# Altium integrated library Infineon_Power_Smart_Low-Side_&_High-Side_Switches.IntLib: 238 symbols (part 5 of 14)
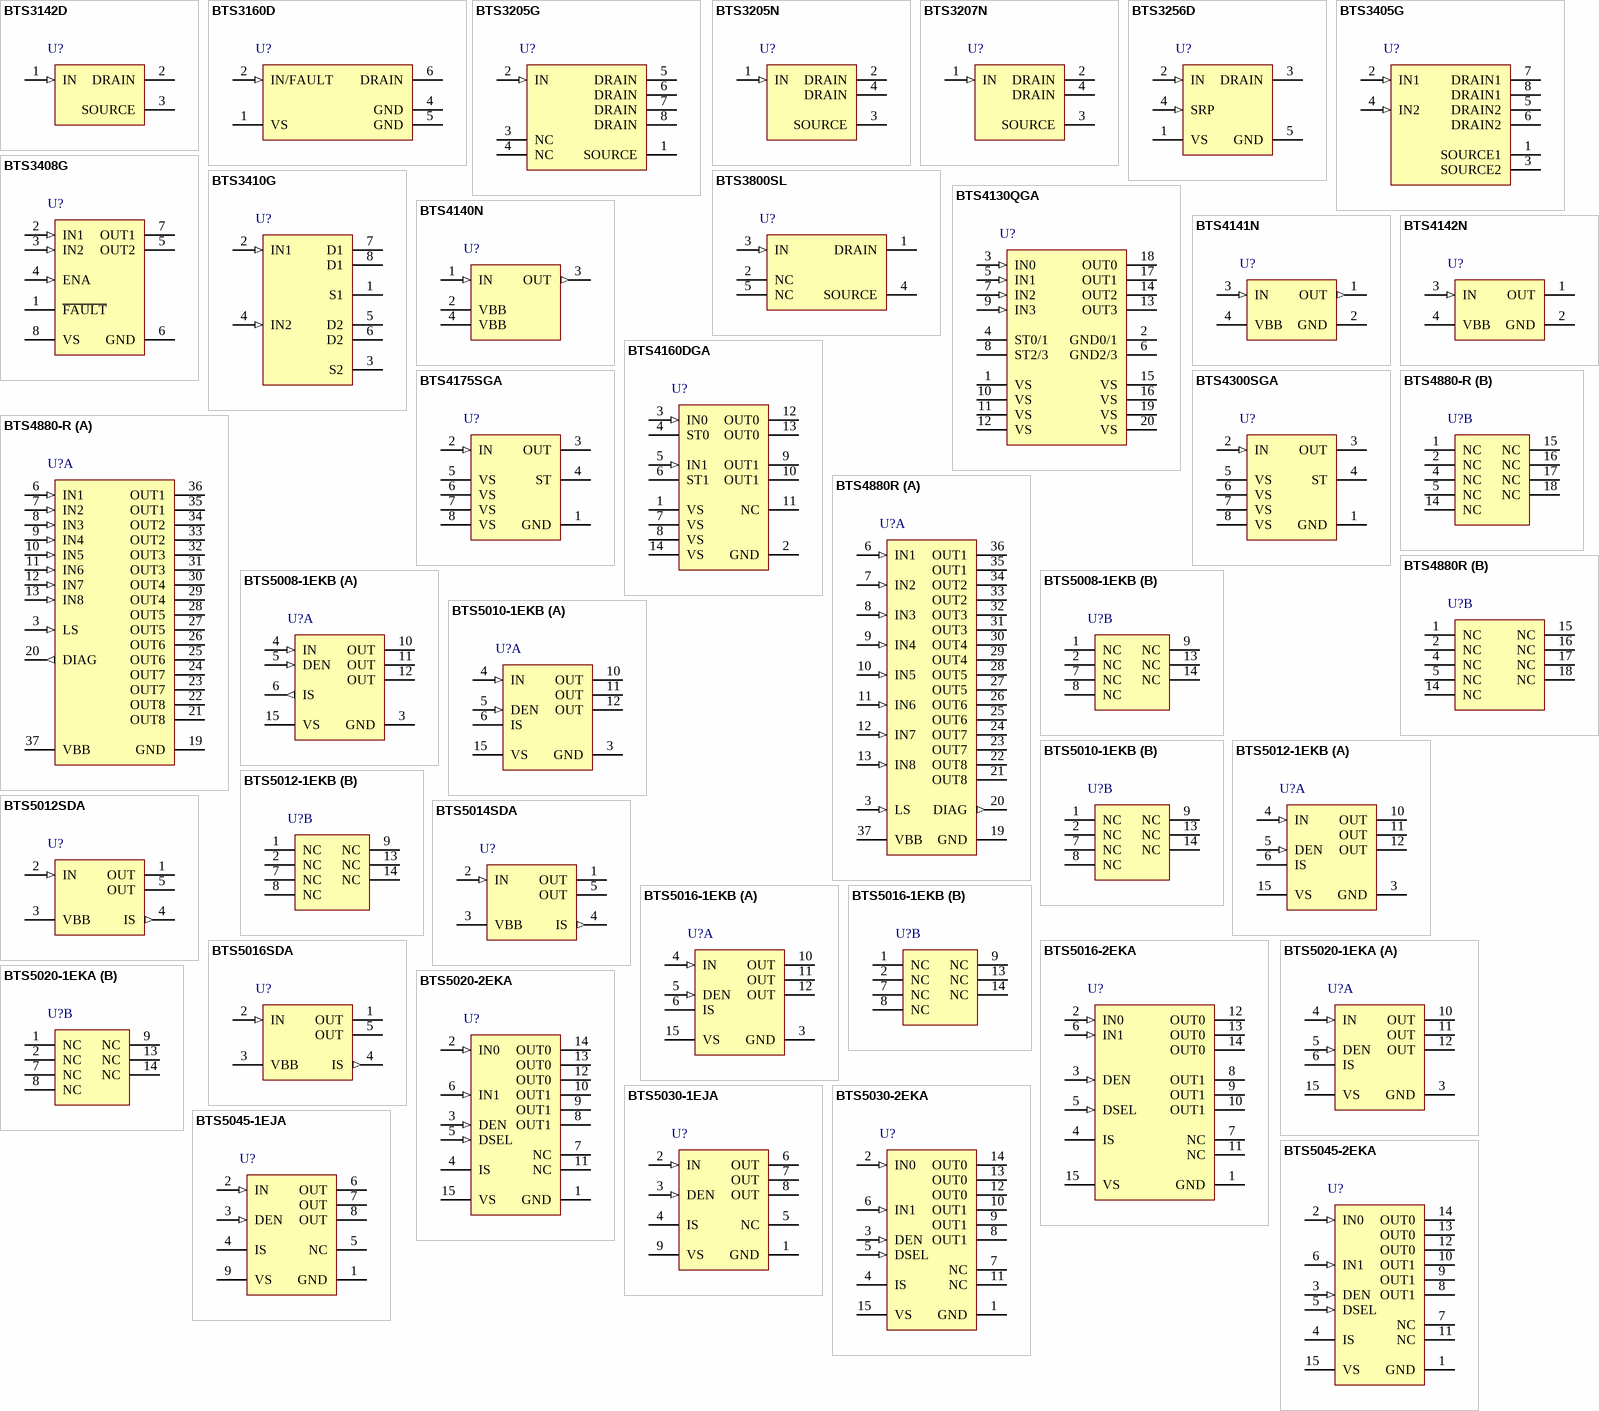
[diagram p11: symbols BTS3142D to BTS5045-2EKA]

## BTS3408G
designator U?
Smart Low-Side Power Switch HITFET, 60 V VDS, 0.55 A ID, -40 to 150 degC, PG-DSO-8-36, Reel, Green; Manufacturer: Infineon; PartNumber: BTS3408G; Channels: 2; Green: TRUE; ID: 0.55 A; ID(lim) (min): 1 A; Ptot (max): 0.88 W; RDS (on)(max): 550 mOhm; ton (max): 8 us; VDS (max): 60 V; DatasheetVersion: Rev. 1.4; PackageVersion: Feb-13; PackageReference: PG-DSO-8-36; PackageDescription: 8-Pin Plastic (Green) Dual Small Outline Package, 4.9 x 3.9 mm Body, 1.27 mm Pitch; Supplier 1: Mouser; Supplier Part Number 1: 726-BTS3408G; Supplier 2: Digi-Key; Supplier Part Number 2: BTS3408GTR-ND; Supplier 3: Digi-Key; Supplier Part Number 3: BTS3408GCT-ND; Supplier 4: Digi-Key; Supplier Part Number 4: BTS3408GDKR-ND; Group: HITFET; Halogen-free: TRUE; ID(nom): 0.55 A; Packing: Reel; toff (max): 8 us; Mounting Technology: Surface Mount; ComponentLink1Description: Manufacturer URL; ComponentLink1URL: http://www.infineon.com/; ComponentLink2Description: Datasheet; ComponentLink2URL: http://www.infineon.com/dgdl/BTS3408G_DS_14.pdf?folderId=db3a3043163797a6011667aa084c0e01&fileId=db3a30433d346a2d013d587dc22c0785&location=en.Products.Automotive_ICs.Smart_High-_and_Low-Side_Switches.HITFET___TEMPFET__-_Smart_Low-Side_Switches.DATASHEET.BTS3408G_DS_14.pdf; ComponentLink3Description: Package Specification; ComponentLink3URL: http://www.infineon.com/dgdl/BTS3408G_DS_14.pdf?folderId=db3a3043163797a6011667aa084c0e01&fileId=db3a30433d346a2d013d587dc22c0785&location=en.Products.Automotive_ICs.Smart_High-_and_Low-Side_Switches.HITFET___TEMPFET__-_Smart_Low-Side_Switches.DATASHEET.BTS3408G_DS_14.pdf
footprint INF-PG-DSO-8-36_N (SOP, 8-Leads, Body 4.9x3.9mm, Pitch 1.27mm, IPC Medium Density)
footprint INF-PG-DSO-8-36_L (SOP, 8-Leads, Body 4.9x3.9mm, Pitch 1.27mm, IPC High Density)
footprint INF-PG-DSO-8-36_M (SOP, 8-Leads, Body 4.9x3.9mm, Pitch 1.27mm, IPC Low Density)
pins: 1 ~{FAULT} (oc) "General Fault Flag; see Table 2 for operation mode.", 2 IN1 (in) "Input 1; input of channel 1; has an internal pull down; TTL/CMOS compatible input.", 3 IN2 (in) "Input 2; input of channel 2; has an internal pull down; TTL/CMOS compatible input.", 4 ENA (in) "Enable/Freeze; has an internal pull down; device is enabled when voltage is higher then 1.2 volts; if the voltage is below 1.7 volts the output is freezed, input signals will be ignored; if the voltage is above 2 volts input (See Datasheet)", 5 OUT2 (power) "Output 2; output of D-MOS stage 2.", 6 GND (power) "Ground.", 7 OUT1 (power) "Output 1; output of D-MOS stage 1.", 8 VS (power) "Power supply."

## BTS3410G
designator U?
Smart Low-Side Power Switch HITFET, 42 V VDS, 1.3 A ID, -40 to 150 degC, PG-DSO-8-25, Reel, Green; Manufacturer: Infineon; PartNumber: BTS3410G; Channels: 2; Green: TRUE; ID: 1 A; ID(nom): 1.3 A; ID(lim) (min): 5 A; Ptot (max): 0.8 W; RDS (on)(max): 200 mOhm; ton (max): 100 us; VDS (max): 42 V; DatasheetVersion: Rev. 1.3; PackageVersion: Nov-07; PackageReference: PG-DSO-8-25; PackageDescription: 8-Pin Plastic (Green) Dual Small Outline Package, 4.9 x 3.9 mm Body, 1.27 mm Pitch; Supplier 1: Mouser; Supplier Part Number 1: 726-BTS3410G; Supplier 2: Newark; Supplier Part Number 2: 78X4827; Supplier 3: Farnell; Supplier Part Number 3: 2432485; Supplier 4: Digi-Key; Supplier Part Number 4: BTS3410GTR-ND; Supplier 5: Digi-Key; Supplier Part Number 5: BTS3410GCT-ND; Supplier 6: Digi-Key; Supplier Part Number 6: BTS3410GDKR-ND; Group: HITFET; Halogen-free: TRUE; Packing: Reel; toff (max): 100 us; Mounting Technology: Surface Mount; ComponentLink1Description: Manufacturer URL; ComponentLink1URL: http://www.infineon.com/; ComponentLink2Description: Datasheet; ComponentLink2URL: http://www.infineon.com/dgdl/BTS3410G_DS_13.pdf?folderId=db3a3043163797a6011667aa084c0e01&fileId=db3a3043271faefd01274d02cd525d4a&location=en.Products.Automotive_ICs.Smart_High-_and_Low-Side_Switches.HITFET___TEMPFET__-_Smart_Low-Side_Switches.DATASHEET.BTS3410G_DS_13.pdf; ComponentLink3Description: Package Specification; ComponentLink3URL: http://www.infineon.com/dgdl/BTS3410G_DS_13.pdf?folderId=db3a3043163797a6011667aa084c0e01&fileId=db3a3043271faefd01274d02cd525d4a&location=en.Products.Automotive_ICs.Smart_High-_and_Low-Side_Switches.HITFET___TEMPFET__-_Smart_Low-Side_Switches.DATASHEET.BTS3410G_DS_13.pdf
footprint INF-PG-DSO-8-25_N (SOP, 8-Leads, Body 4.9x3.9mm, Pitch 1.27mm, IPC Medium Density)
footprint INF-PG-DSO-8-25_L (SOP, 8-Leads, Body 4.9x3.9mm, Pitch 1.27mm, IPC High Density)
footprint INF-PG-DSO-8-25_M (SOP, 8-Leads, Body 4.9x3.9mm, Pitch 1.27mm, IPC Low Density)
pins: 1 S1 (power) "Source Channel 1", 2 IN1 (in) "Input Channel 1", 3 S2 (power) "Source Channel 2", 4 IN2 (in) "Input Channel 2", 5 D2 (power) "Drain Channel 2", 6 D2 (power) "Drain Channel 2", 7 D1 (power) "Drain Channel 1", 8 D1 (power) "Drain Channel 1"

## BTS3800SL
designator U?
HITFET Smart Low Side Power Switch, Small Protected Automotive Relay Driver Single Channel, 800 mOhm, 41 V VDS, 0.52 A ID, -40 to 150 degC, PG-SCT595, Reel, Green; Manufacturer: Infineon; PartNumber: BTS3800SL; Channels: 1; Green: TRUE; ID: 0.52 A; ID(nom): 0.35 A; ID(lim) (min): 0.75 A; ISC (max): 1.5 A; ton (max): 5 us; VDS (max): 41 V; DatasheetVersion: Rev. 1.1; PackageVersion: Apr-08; PackageReference: PG-SCT595; PackageDescription: 5-Pin Semiconductor Transistor Package, 2.9 x 1.6 mm Body, 0.95 mm Pitch; Supplier 1: Mouser; Supplier Part Number 1: 726-BTS3800SL; Supplier 2: Newark; Supplier Part Number 2: 47W3386; Supplier 3: Farnell; Supplier Part Number 3: 2215528; Supplier 4: Digi-Key; Supplier Part Number 4: BTS3800SL-ND; Group: HITFET; Halogen-free: FALSE; Packing: Reel; RDS (on)(max): 800 mOhm; toff (max): 5 us; Mounting Technology: Surface Mount; ComponentLink1Description: Manufacturer URL; ComponentLink1URL: http://www.infineon.com/; ComponentLink2Description: Datasheet; ComponentLink2URL: http://www.infineon.com/dgdl/BTS3800_DS_11.pdf?folderId=db3a30431ddc9372011e26863f92474e&fileId=db3a30432fbc32ee012fc48b8196750a&location=en.Products.Automotive_ICs.Smart_High-_and_Low-Side_Switches.HITFET___TEMPFET__-_Smart_Low-Side_Switches.DATASHEET.BTS3800_DS_11.pdf; ComponentLink3Description: Package Specification; ComponentLink3URL: http://www.infineon.com/dgdl/SCT595-Package_Overview.pdf?folderId=db3a30431936bc4b01195289a4e23b8a&fileId=db3a30431936bc4b0119529a880d3bb2
footprint INF-PG-SCT595_V (SOT23, 5-Leads, Body 2.9x1.6mm, Pitch 0.95mm)
pins: 1 DRAIN (power) "Drain pin; Load connection for power DMOS", 2 NC "Not connected; Should be connected to ground for cooling", 3 IN (in) "Input pin; Digital input", 4 SOURCE (power) "Source pin; Ground, Source of power DMOS", 5 NC "Not connected; Should be connected to ground for cooling"

## BTS4130QGA
designator U?
Smart High-Side Power Switch, 4 Channels, 1.7 A Load Current, -40 to 150 degC, PG-DSO-20-32, Reel, Green; Manufacturer: Infineon; PartNumber: BTS4130QGA; Channels: 4; Green: TRUE; Group: Automotive Qualified; Load Current (typ): 1.7 A; Ptot (max): 1.4 W; Recommended Operating Voltage Max.: 20 V; Recommended Operating Voltage Min.: 5.5 V; RON @ 25degreesC: 130 mOhm; RON(max) @ 150degreesC: 260 mOhm; toff (max): 270 us; ton (max): 250 us; DatasheetVersion: Rev. 1.0; PackageVersion: Mar-08; PackageReference: PG-DSO-20-32; PackageDescription: 20-Pin Plastic (Green) Dual Small Outline Package, 12.7 x 7.5 mm Body, 1.27 mm Pitch; Supplier 1: Mouser; Supplier Part Number 1: 726-BTS4130QGA; Supplier 2: Newark; Supplier Part Number 2: 47W3387; Supplier 3: Farnell; Supplier Part Number 3: 2215517; Supplier 4: Digi-Key; Supplier Part Number 4: BTS4130QGATR-ND; Supplier 5: Digi-Key; Supplier Part Number 5: BTS4130QGACT-ND; Supplier 6: Digi-Key; Supplier Part Number 6: BTS4130QGADKR-ND; Halogen-free: TRUE; Packing: Reel; Mounting Technology: Surface Mount; ComponentLink1Description: Manufacturer URL; ComponentLink1URL: http://www.infineon.com/; ComponentLink2Description: Datasheet; ComponentLink2URL: http://www.infineon.com/dgdl/BTS+4130QGA_DS10+_neu.pdf?folderId=db3a304314dca389011537739e37155f&fileId=db3a30431a5c32f2011a957932285680&sId=db3a30433d68e984013d7f42d6576278; ComponentLink3Description: Package Specification; ComponentLink3URL: http://www.infineon.com/dgdl/BTS+4130QGA_DS10+_neu.pdf?folderId=db3a304314dca389011537739e37155f&fileId=db3a30431a5c32f2011a957932285680&sId=db3a30433d68e984013d7f42d6576278
footprint INF-PG-DSO-20-32_N (SOP, 20-Leads, Body 12.7x7.5mm, Pitch 1.27mm, IPC Medium Density)
footprint INF-PG-DSO-20-32_L (SOP, 20-Leads, Body 12.7x7.5mm, Pitch 1.27mm, IPC High Density)
footprint INF-PG-DSO-20-32_M (SOP, 20-Leads, Body 12.7x7.5mm, Pitch 1.27mm, IPC Low Density)
pins: 1 VS (power) "Battery voltage; Design the wiring for the simultaneous maximum short circuit currents from channel 0 and 1 and also for low thermal resistance", 2 GND0/1 (power) "Ground; Ground connection for channel 0 and 1", 3 IN0 (in) "Input channel 0; Input signal for channel 0. Activate the channel in case of logic high level", 4 ST0/1 (oc) "Diagnostic feedback; of channel 0/1. Open drain.", 5 IN1 (in) "Input channel 1; Input signal for channel 1. Activate the channel in case of logic high level", 6 GND2/3 (power) "Ground; Ground connection for channel 2 and 3", 7 IN2 (in) "Input channel 2; Input signal for channel 2. Activate the channel in case of logic high level", 8 ST2/3 (oc) "Diagnostic feedback; of channel 2/3. Open drain.", 9 IN3 (in) "Input channel 3; Input signal for channel 3. Activate the channel in case of logic high level", 10 VS (power) "Battery voltage; Design the wiring for the simultaneous maximum short circuit currents from channel 0 and 1 and also for low thermal resistance", 11 VS (power) "Battery voltage; Design the wiring for the simultaneous maximum short circuit currents from channel 0 and 1 and also for low thermal resistance", 12 VS (power) "Battery voltage; Design the wiring for the simultaneous maximum short circuit currents from channel 0 and 1 and also for low thermal resistance", 13 OUT3 (power) "Output 3; Protected High side power output channel 3", 14 OUT2 (power) "Output 2; Protected High side power output channel 2", 15 VS (power) "Battery voltage; Design the wiring for the simultaneous maximum short circuit currents from channel 0 and 1 and also for low thermal resistance", 16 VS (power) "Battery voltage; Design the wiring for the simultaneous maximum short circuit currents from channel 0 and 1 and also for low thermal resistance", 17 OUT1 (power) "Output 1; Protected High side power output channel 1", 18 OUT0 (power) "Output 0; Protected High side power output channel 0", 19 VS (power) "Battery voltage; Design the wiring for the simultaneous maximum short circuit currents from channel 0 and 1 and also for low thermal resistance", 20 VS (power) "Battery voltage; Design the wiring for the simultaneous maximum short circuit currents from channel 0 and 1 and also for low thermal resistance"

## BTS4140N
designator U?
Smart High-Side Power Switch, 1 Channel, 0.9 A Load Current, -40 to 150 degC, PG-SOT-223, Tube, Green; Manufacturer: Infineon; PartNumber: BTS4140N; Channels: 1; Green: TRUE; Group: Automotive Qualified; Load Current (typ): 0.9 A; Ptot (max): 1.7 W; Recommended Operating Voltage Max.: 60 V; Recommended Operating Voltage Min.: 4.9 V; RON @ 25degreesC: 1000 mOhm; RON(max) @ 150degreesC: 3000 mOhm; toff (max): 140 us; ton (max): 100 us; DatasheetVersion: Rev. 1.1; PackageVersion: May-07; PackageReference: PG-SOT-223; PackageDescription: 4-Pin Small Outline Transistor Package, 3.5 x 6.5 mm Body, 2.3 mm Pitch; Supplier 1: Mouser; Supplier Part Number 1: 726-BTS4140N; Supplier 2: Newark; Supplier Part Number 2: 47W3388; Supplier 3: Farnell; Supplier Part Number 3: 2215503; Supplier 4: Digi-Key; Supplier Part Number 4: BTS4140NINTR-ND; Supplier 5: Digi-Key; Supplier Part Number 5: BTS4140NINCT-ND; Supplier 6: Digi-Key; Supplier Part Number 6: BTS4140NINDKR-ND; Halogen-free: FALSE; Packing: Tube; Mounting Technology: Surface Mount; ComponentLink1Description: Manufacturer URL; ComponentLink1URL: http://www.infineon.com/; ComponentLink2Description: Datasheet; ComponentLink2URL: http://www.infineon.com/dgdl/BTS4140N.pdf?folderId=db3a304314dca389011537739e37155f&fileId=db3a30431b3e89eb011b7e9d23d91509&location=en.Products.Automotive_ICs.Smart_High-_and_Low-Side_Switches.PROFET__-_Smart_High_Side_Switches.DATASHEET.BTS4140N.pdf; ComponentLink3Description: Package Specification; ComponentLink3URL: http://www.infineon.com/dgdl/BSP452.pdf?folderId=db3a304314dca389011537739e37155f&fileId=db3a30431b3e89eb011b7eac4d321531&sId=db3a30433da6ece5013da707896d001d
footprint INF-PG-SOT-223_N (SOT223, 4-Leads, Body 6.5x3.5mm, Pitch 2.3mm, IPC Medium Density)
footprint INF-PG-SOT-223_L (SOT223, 4-Leads, Body 6.5x3.5mm, Pitch 2.3mm, IPC High Density)
footprint INF-PG-SOT-223_M (SOT223, 4-Leads, Body 6.5x3.5mm, Pitch 2.3mm, IPC Low Density)
pins: 1 IN (in) "Input, activates the power switch in case of connection to GND", 2 VBB (power) "Positive power supply voltage", 3 OUT (out) "Output to the load", 4 VBB (power) "Positive power suppy voltage"

## BTS4141N
designator U?
Smart High-Side Power Switch, 1 Channel, 0.7 A Load Current, -40 to 150 degC, PG-SOT223 (SC-73), Reel, Green; Manufacturer: Infineon; PartNumber: BTS4141N; Channels: 1; Green: TRUE; Group: Automotive Qualified; Load Current (typ): 0.7 A; Ptot (max): 1.4 W; Recommended Operating Voltage Max.: 45 V; Recommended Operating Voltage Min.: 12 V; RON @ 25degreesC: 200 mOhm; RON(max) @ 150degreesC: 320 mOhm; toff (max): 150 us; ton (max): 100 us; DatasheetVersion: Rev. 1.1; PackageVersion: Apr-08; PackageReference: PG-SOT223 (SC-73); PackageDescription: 4-Pin Small Outline Transistor Package, 6.5 x 3.5 mm Body, 2.3 mm Pitch; Supplier 1: Mouser; Supplier Part Number 1: 726-BTS4141N; Supplier 2: Newark; Supplier Part Number 2: 47W3389; Supplier 3: Farnell; Supplier Part Number 3: 2215477; Supplier 4: Digi-Key; Supplier Part Number 4: BTS4141NINTR-ND; Supplier 5: Digi-Key; Supplier Part Number 5: BTS4141NINCT-ND; Supplier 6: Digi-Key; Supplier Part Number 6: BTS4141NINDKR-ND; Halogen-free: FALSE; Packing: Reel; Mounting Technology: Surface Mount; ComponentLink1Description: Manufacturer URL; ComponentLink1URL: http://www.infineon.com/; ComponentLink2Description: Datasheet; ComponentLink2URL: http://www.infineon.com/dgdl/BTS4141N_DS_V11_2009.pdf?folderId=db3a304314dca389011537739e37155f&fileId=db3a30431b3e89eb011b7ea5e0f8151d&location=en.Products.Automotive_ICs.Smart_High-_and_Low-Side_Switches.PROFET__-_Smart_High_Side_Switches.DATASHEET.BTS4141N_DS_V11_2009.pdf; ComponentLink3Description: Package Specification; ComponentLink3URL: http://www.infineon.com/dgdl/SOT223-Package_Overview.pdf?folderId=db3a30431936bc4b0119530470b03c3d&fileId=db3a30431936bc4b0119531d40b93c5c
footprint INF-PG-SOT223_SC-73_N (SOT223, 4-Leads, Body 6.5x3.5mm, Pitch 2.3mm, IPC Medium Density)
footprint INF-PG-SOT223_SC-73_L (SOT223, 4-Leads, Body 6.5x3.5mm, Pitch 2.3mm, IPC High Density)
footprint INF-PG-SOT223_SC-73_M (SOT223, 4-Leads, Body 6.5x3.5mm, Pitch 2.3mm, IPC Low Density)
pins: 1 OUT (out) "Output to the load", 2 GND (power) "Logic ground", 3 IN (in) "Input, activates the power switch in case of logic high signal", 4 VBB (power) "Positive power supply voltage"

## BTS4142N
designator U?
Smart High-Side Power Switch, 1 Channel, 3 A Load Current, -40 to 150 degC, PG-SOT-223, Reel, Green; Manufacturer: Infineon; PartNumber: BTS4142N; Channels: 1; Green: TRUE; Group: Automotive Qualified; Load Current (typ): 1.4 A; Ptot (max): 1.4 W; Recommended Operating Voltage Max.: 45 V; Recommended Operating Voltage Min.: 12 V; RON @ 25degreesC: 200 mOhm; RON(max) @ 150degreesC: 320 mOhm; toff (max): 150 us; ton (max): 100 us; DatasheetVersion: Rev. 1.1; PackageVersion: May-07; PackageReference: PG-SOT-223; PackageDescription: 4-Pin Small Outline Transistor Package, 3.5 x 6.5 mm Body, 2.3 mm Pitch; Supplier 1: Mouser; Supplier Part Number 1: 726-BTS4142N; Supplier 2: Newark; Supplier Part Number 2: 47W3390; Supplier 3: Farnell; Supplier Part Number 3: 2215475; Supplier 4: Digi-Key; Supplier Part Number 4: BTS4142NTR-ND; Supplier 5: Digi-Key; Supplier Part Number 5: BTS4142NCT-ND; Supplier 6: Digi-Key; Supplier Part Number 6: BTS4142NDKR-ND; Halogen-free: FALSE; Packing: Reel; Mounting Technology: Surface Mount; ComponentLink1Description: Manufacturer URL; ComponentLink1URL: http://www.infineon.com/; ComponentLink2Description: Datasheet; ComponentLink2URL: http://www.infineon.com/dgdl/BTS4142N.pdf?folderId=db3a304314dca389011537739e37155f&fileId=db3a30431b3e89eb011b7e8683d314e0&location=en.Products.Automotive_ICs.Smart_High-_and_Low-Side_Switches.PROFET__-_Smart_High_Side_Switches.DATASHEET.BTS4142N.pdf; ComponentLink3Description: Package Specification; ComponentLink3URL: http://www.infineon.com/dgdl/BSP452.pdf?folderId=db3a304314dca389011537739e37155f&fileId=db3a30431b3e89eb011b7eac4d321531&sId=db3a30433da6ece5013da707896d001d
footprint INF-PG-SOT-223_N (SOT223, 4-Leads, Body 6.5x3.5mm, Pitch 2.3mm, IPC Medium Density)
footprint INF-PG-SOT-223_L (SOT223, 4-Leads, Body 6.5x3.5mm, Pitch 2.3mm, IPC High Density)
footprint INF-PG-SOT-223_M (SOT223, 4-Leads, Body 6.5x3.5mm, Pitch 2.3mm, IPC Low Density)
pins: 1 OUT (power) "Output to the load", 2 GND (power) "Logic ground", 3 IN (in) "Input, activates the power switch in case of logical high signal", 4 VBB (power) "Positive power supply voltage"

## BTS4160DGA
designator U?
Smart High-Side Power Switch, 2 Channels, 1.7 A Load Current, -40 to 150 degC, PG-DSO-14-37, Reel, Green; Manufacturer: Infineon; PartNumber: BTS4160DGA; Channels: 2; Green: TRUE; Group: Automotive Qualified; Load Current (typ): 1.7 A; Ptot (max): 1.4 W; Recommended Operating Voltage Max.: 20 V; Recommended Operating Voltage Min.: 5.5 V; RON @ 25degreesC: 160 mOhm; RON(max) @ 150degreesC: 320 mOhm; toff (max): 270 us; ton (max): 250 us; DatasheetVersion: Rev. 1.0; PackageVersion: Sep-07; PackageReference: PG-DSO-14-37; PackageDescription: 14-Pin Plastic (Green) Dual Small Outline Package, 8.65 x 3.9 mm Body, 1.27 mm Pitch; Supplier 1: Mouser; Supplier Part Number 1: 726-BTS4160DGA; Supplier 2: Farnell; Supplier Part Number 2: 2215509; Supplier 3: Digi-Key; Supplier Part Number 3: BTS4160DGATR-ND; Supplier 4: Digi-Key; Supplier Part Number 4: BTS4160DGACT-ND; Supplier 5: Digi-Key; Supplier Part Number 5: BTS4160DGADKR-ND; Halogen-free: TRUE; Packing: Reel; Mounting Technology: Surface Mount; ComponentLink1Description: Manufacturer URL; ComponentLink1URL: http://www.infineon.com/; ComponentLink2Description: Datasheet; ComponentLink2URL: http://www.infineon.com/dgdl/BTS+4160DGA_DS2008_03_18_neu.pdf?folderId=db3a304314dca389011537739e37155f&fileId=db3a30431a5c32f2011a957ab5875685&sId=db3a30433d68e984013d7cba76cc57cb; ComponentLink3Description: Package Specification; ComponentLink3URL: http://www.infineon.com/dgdl/BTS723GWDS11_2007_09_25.pdf?folderId=db3a304314dca389011537739e37155f&fileId=db3a304331c8f8560131dbfec21b0da9&sId=db3a30443d67b5ca013d854df2f133e5
footprint INF-PG-DSO-14-37_N (SOP, 14-Leads, Body 8.65x3.9mm, Pitch 1.27mm, IPC Medium Density)
footprint INF-PG-DSO-14-37_L (SOP, 14-Leads, Body 8.65x3.9mm, Pitch 1.27mm, IPC High Density)
footprint INF-PG-DSO-14-37_M (SOP, 14-Leads, Body 8.65x3.9mm, Pitch 1.27mm, IPC Low Density)
pins: 1 VS (power) "Battery voltage Design the wiring for the simultaneous max. short circuit currents from channel 0 and 1 and also for low thermal resistance", 2 GND (power) "Ground; Ground connection", 3 IN0 (in) "Input channel 0; Input signal for channel 0. Activate the channel in case of logic high level", 4 ST0 (oc) "Diagnostic feedback; Channel 0. Open drain", 5 IN1 (in) "Input channel 1; Input signal for channel 1. Activate the channel in case of logic high level", 6 ST1 (oc) "Diagnostic feedback; Channel 1. Open drain", 7 VS (power) "Battery voltage Design the wiring for the simultaneous max. short circuit currents from channel 0 and 1 and also for low thermal resistance", 8 VS (power) "Battery voltage Design the wiring for the simultaneous max. short circuit currents from channel 0 and 1 and also for low thermal resistance", 9 OUT1 (power) "Output 1; Protected High side power output channel 1", 10 OUT1 (power) "Output 1; Protected High side power output channel 1", 11 NC "Not Connected", 12 OUT0 (power) "Output 0; Protected High side power output channel 0", 13 OUT0 (power) "Output 0; Protected High side power output channel 0", 14 VS (power) "Battery voltage Design the wiring for the simultaneous max. short circuit currents from channel 0 and 1 and also for low thermal resistance"

## BTS4175SGA
designator U?
Smart High-Side Power Switch, 1 Channel, 1.3 A Load Current, -40 to 150 degC, PG-DSO-8-24, Reel, Green; Manufacturer: Infineon; PartNumber: BTS4175SGA; Channels: 1; Green: TRUE; Group: Automotive Qualified; Load Current (typ): 1.3 A; Ptot (max): 1.5 W; Recommended Operating Voltage Max.: 52 V; Recommended Operating Voltage Min.: 6 V; RON @ 25degreesC: 175 mOhm; RON(max) @ 150degreesC: 350 mOhm; toff (max): 200 us; ton (max): 180 us; DatasheetVersion: Rev.1.0; PackageVersion: May-07; PackageReference: PG-DSO-8-24; PackageDescription: 8-Pin Plastic (Green) Dual Small Outline Package, 4.9 x 3.9 mm Body, 1.27 mm Pitch; Supplier 1: Mouser; Supplier Part Number 1: 726-BTS4175SGA; Supplier 2: Newark; Supplier Part Number 2: 47W3392; Supplier 3: Farnell; Supplier Part Number 3: 2215521; Supplier 4: Digi-Key; Supplier Part Number 4: BTS4175SGATR-ND; Supplier 5: Digi-Key; Supplier Part Number 5: BTS4175SGACT-ND; Supplier 6: Digi-Key; Supplier Part Number 6: BTS4175SGADKR-ND; Halogen-free: TRUE; Packing: Reel; Mounting Technology: Surface Mount; ComponentLink1Description: Manufacturer URL; ComponentLink1URL: http://www.infineon.com/; ComponentLink2Description: Datasheet; ComponentLink2URL: http://www.infineon.com/dgdl/BTS4175SGA_final_DS_17-04-29.pdf?folderId=db3a304314dca389011537739e37155f&fileId=db3a30431a5c32f2011a6d4a1040744e&location=en.Products.Automotive_ICs.Smart_High-_and_Low-Side_Switches.PROFET__-_Smart_High_Side_Switches.DATASHEET.BTS4175SGA_final_DS_17-04-29.pdf; ComponentLink3Description: Package Specification; ComponentLink3URL: http://www.infineon.com/dgdl/BSP742RI.pdf?folderId=db3a304314dca389011537739e37155f&fileId=db3a304316f112290116f22466b271a6&sId=db3a30433d68e984013d83055b4a7981
footprint INF-PG-DSO-8-24_N (SOP, 8-Leads, Body 4.9x3.9mm, Pitch 1.27mm, IPC Medium Density)
footprint INF-PG-DSO-8-24_L (SOP, 8-Leads, Body 4.9x3.9mm, Pitch 1.27mm, IPC High Density)
footprint INF-PG-DSO-8-24_M (SOP, 8-Leads, Body 4.9x3.9mm, Pitch 1.27mm, IPC Low Density)
pins: 1 GND (power) "Ground; Ground connection", 2 IN (in) "Input channel; Input signal. Activate the channel in case of logic high level", 3 OUT (power) "Output; Protected High side power output channel", 4 ST (oc) "Diagnostic feedback; of channel. Open drain.", 5 VS (power) "Battery voltage; Design the wiring for the simultaneous max. short circuit current and also for low thermal resistance", 6 VS (power) "Battery voltage; Design the wiring for the simultaneous max. short circuit current and also for low thermal resistance", 7 VS (power) "Battery voltage; Design the wiring for the simultaneous max. short circuit current and also for low thermal resistance", 8 VS (power) "Battery voltage; Design the wiring for the simultaneous max. short circuit current and also for low thermal resistance"

## BTS4300SGA
designator U?
Smart Power High-Side-Switch, 1 Channel, 1.1 A Load Current, -40 to 150 degC, PG-DSO-8-24, Reel, Green; Manufacturer: Infineon; PartNumber: BTS4300SGA; Channels: 1; Green: TRUE; Group: Automotive Qualified; Load Current (typ): 1.1 A; Packing: Tube; Ptot (max): 1.5 W; Recommended Operating Voltage Max.: 34 V; Recommended Operating Voltage Min.: 5 V; RON @ 25degreesC: 300 mOhm; RON(max) @ 150degreesC: 600 mOhm; toff (max): 170 us; ton (max): 140 us; DatasheetVersion: Rev. 1.0; PackageVersion: May-07; PackageReference: PG-DSO-8-24; PackageDescription: 8-Pin Plastic (Green) Dual Small Outline Package, 4.9 x 3.9 mm Body, 1.27 mm Pitch; Supplier 1: Mouser; Supplier Part Number 1: 726-BTS4300SGA; Supplier 2: Newark; Supplier Part Number 2: 47W3393; Supplier 3: Farnell; Supplier Part Number 3: 2215523; Supplier 4: Digi-Key; Supplier Part Number 4: BTS4300SGAINTR-ND; Supplier 5: Digi-Key; Supplier Part Number 5: BTS4300SGAINCT-ND; Supplier 6: Digi-Key; Supplier Part Number 6: BTS4300SGAINDKR-ND; Halogen-free: TRUE; Mounting Technology: Surface Mount; ComponentLink1Description: Manufacturer URL; ComponentLink1URL: http://www.infineon.com/; ComponentLink2Description: Datasheet; ComponentLink2URL: http://www.infineon.com/dgdl/BTS4300SGA_final_DS_17-04-08.pdf?folderId=db3a304314dca389011537739e37155f&fileId=db3a30431a5c32f2011a6d4dcbb1745d&location=en.Products.Automotive_ICs.Smart_High-_and_Low-Side_Switches.PROFET__-_Smart_High_Side_Switches.DATASHEET.BTS4300SGA_final_DS_17-04-08.pdf; ComponentLink3Description: Package Specification; ComponentLink3URL: http://www.infineon.com/dgdl/BSP742RI.pdf?folderId=db3a304314dca389011537739e37155f&fileId=db3a304316f112290116f22466b271a6&sId=db3a30433d68e984013d83055b4a7981
footprint INF-PG-DSO-8-24_N (SOP, 8-Leads, Body 4.9x3.9mm, Pitch 1.27mm, IPC Medium Density)
footprint INF-PG-DSO-8-24_L (SOP, 8-Leads, Body 4.9x3.9mm, Pitch 1.27mm, IPC High Density)
footprint INF-PG-DSO-8-24_M (SOP, 8-Leads, Body 4.9x3.9mm, Pitch 1.27mm, IPC Low Density)
pins: 1 GND (power) "Ground; Ground connection", 2 IN (in) "Input channel; Input signal. Activate the channel in case of logic high level", 3 OUT (power) "Output; Protected High side power output channel", 4 ST (oc) "Diagnostic feedback; of channel. Open drain.", 5 VS (power) "Battery voltage; Design the wiring for the simultaneous max. short circuit current and also for low thermal resistance", 6 VS (power) "Battery voltage; Design the wiring for the simultaneous max. short circuit current and also for low thermal resistance", 7 VS (power) "Battery voltage; Design the wiring for the simultaneous max. short circuit current and also for low thermal resistance", 8 VS (power) "Battery voltage; Design the wiring for the simultaneous max. short circuit current and also for low thermal resistance"

## BTS4880-R
designator U?
Smart Power High-Side-Switch, 8 Channels: 8 x 200 mOhm, -40 to 150 degC, PG-DSO-36-26, Reel, Green; Manufacturer: Infineon; PartNumber: BTS4880-R; Channels: 8; Green: TRUE; Group: Automotive Qualified; Ptot (max): 3.3 W; Recommended Operating Voltage Max.: 45 V; Recommended Operating Voltage Min.: 11 V; RON(max) @ 150degreesC: 320 mOhm; toff (max): 150 us; ton (max): 100 us; DatasheetVersion: Rev. 1.1; PackageVersion: Aug-09; PackageReference: PG-DSO-36-26; PackageDescription: 36-Pin Plastic (Green) Dual Small Outline Package, 15.9 x 11 mm Body, 0.65 mm Pitch; Halogen-free: TRUE; Packing: Reel; RON @ 25degreesC: 200 mOhm; Mounting Technology: Surface Mount; ComponentLink1Description: Manufacturer URL; ComponentLink1URL: http://www.infineon.com/; ComponentLink2Description: Datasheet; ComponentLink2URL: http://www.infineon.com/dgdl/BTS4880R_Green_DS_11.pdf?folderId=db3a304314dca389011537739e37155f&fileId=db3a30431b3e89eb011b7e3a9ad714ce&location=en.Products.Automotive_ICs.Smart_High-_and_Low-Side_Switches.PROFET__-_Smart_High_Side_Switches.DATASHEET.BTS4880R_Green_DS_11.pdf; ComponentLink3Description: Package Specification; ComponentLink3URL: http://www.infineon.com/dgdl/ITS4880R_DS_11.pdf?folderId=db3a304412b407950112b408e8c90004&fileId=db3a304412b407950112b4295fb340cf&sId=db3a30433db6f09f013dc85930135028
footprint INF-PG-DSO-36-26_N (SOP, 36-Leads, Body 15.9x11mm, Pitch 0.65mm, Thermal Pad 16x6mm, IPC Medium Density)
footprint INF-PG-DSO-36-26_L (SOP, 36-Leads, Body 15.9x11mm, Pitch 0.65mm, Thermal Pad 16x6mm, IPC High Density)
footprint INF-PG-DSO-36-26_M (SOP, 36-Leads, Body 15.9x11mm, Pitch 0.65mm, Thermal Pad 16x6mm, IPC Low Density)
part A pins: 3 LS (in) "Enable pin for switching the input-levels to Vbb/2", 6 IN1 (in) "Input, activeates channel 1 in case of logic high signal", 7 IN2 (in) "Input, activeates channel 2 in case of logic high signal", 8 IN3 (in) "Input, activeates channel 3 in case of logic high signal", 9 IN4 (in) "Input, activeates channel 4 in case of logic high signal", 10 IN5 (in) "Input, activeates channel 5 in case of logic high signal", 11 IN6 (in) "Input, activeates channel 6 in case of logic high signal", 12 IN7 (in) "Input, activeates channel 7 in case of logic high signal", 13 IN8 (in) "Input, activeates channel 8 in case of logic high signal", 19 GND (power) "Logic ground", 20 DIAG (out) "Common diagnostic output for overtemperature", 21 OUT8 (power) "High-side output of channel 8", 22 OUT8 (power) "High-side output of channel 8", 23 OUT7 (power) "High-side output of channel 7", 24 OUT7 (power) "High-side output of channel 7", 25 OUT6 (power) "High-side output of channel 6", 26 OUT6 (power) "High-side output of channel 6", 27 OUT5 (power) "High-side output of channel 5", 28 OUT5 (power) "High-side output of channel 5", 29 OUT4 (power) "High-side output of channel 4", 30 OUT4 (power) "High-side output of channel 4", 31 OUT3 (power) "High-side output of channel 3", 32 OUT3 (power) "High-side output of channel 3", 33 OUT2 (power) "High-side output of channel 2", 34 OUT2 (power) "High-side output of channel 2", 35 OUT1 (power) "High-side output of channel 1", 36 OUT1 (power) "High-side output of channel 1", 37 VBB (power) "Positive power supply voltage"
part B pins: 1 NC "not connected", 2 NC "not connected", 4 NC "not connected", 5 NC "not connected", 14 NC "not connected", 15 NC "not connected", 16 NC "not connected", 17 NC "not connected", 18 NC "not connected"

## BTS4880R
designator U?
Smart Power High-Side-Switch, Eight Channels: 8 x 200 mOhm, 11 to 45 V, PG-DSO-36, Reel, Green; Manufacturer: Infineon; PartNumber: BTS4880R; Channels: 8; Diagnostic: Digital; Green: TRUE; IL (SCp): 1.4 A; Ptot (max): 3.3 W; Recommended Operating Voltage Max.: 45 V; Recommended Operating Voltage Min.: 11 V; RON @ Tj: 25degreesC=200 mOhm; toff (max): 150 us; ton (max): 100 us; DatasheetVersion: Rev. 1.1; PackageVersion: Rev. 01; PackageReference: PG-DSO-36-12; PackageDescription: 36-Pin Plastic (Green) Dual Small Outline Package, 15.9 x 11 mm Body, 0.65 mm Pitch; Supplier 1: Digi-Key; Supplier Part Number 1: BTS4880RTR-ND; Supplier 2: Digi-Key; Supplier Part Number 2: BTS4880RCT-ND; Supplier 3: Digi-Key; Supplier Part Number 3: BTS4880RDKR-ND; Supplier 4: Farnell; Supplier Part Number 4: 2432492; Supplier 5: Newark; Supplier Part Number 5: 78X4834; Supplier 6: Mouser; Supplier Part Number 6: 726-BTS4880R; Halogen-free: TRUE; Mounting: SMT; Packing: Reel; Mounting Technology: Surface Mount; ComponentLink1Description: Manufacturer URL; ComponentLink1URL: http://www.infineon.com/; ComponentLink2Description: Datasheet; ComponentLink2URL: http://www.infineon.com/dgdl/BTS4880R_Green_DS_11.pdf?folderId=db3a304314dca389011537739e37155f&fileId=db3a30431b3e89eb011b7e3a9ad714ce; ComponentLink3Description: Package Specification; ComponentLink3URL: http://www.infineon.com/cms/packages/SMD_-_Surface_Mounted_Devices/P-PG-DSO/P-PG-DSO-36-10x_-12x_-15x_-16x_-21x_-23x_-26x_-27.html?__locale=en
footprint INF-PG-DSO-36-12_V (SOP, 36-Leads, Body 15.9x11mm, Pitch 0.65mm, Thermal Pad 15.74x5.9mm)
part A pins: 3 LS (in) "Enable pin for switching the input-levels to Vbb/2", 6 IN1 (in) "Input,activates channel 1 in case of logic high signal", 7 IN2 (in) "Input,activates channel 2 in case of logic high signal", 8 IN3 (in) "Input,activates channel 3 in case of logic high signal", 9 IN4 (in) "Input,activates channel 4 in case of logic high signal", 10 IN5 (in) "Input,activates channel 5 in case of logic high signal", 11 IN6 (in) "Input,activates channel 6 in case of logic high signal", 12 IN7 (in) "Input,activates channel 7 in case of logic high signal", 13 IN8 (in) "Input,activates channel 8 in case of logic high signal", 19 GND (power) "Logic ground", 20 DIAG (out) "Common diagnostic output for overtemperature", 21 OUT8 (power) "High-side output of channel 8", 22 OUT8 (power) "High-side output of channel 8", 23 OUT7 (power) "High-side output of channel 7", 24 OUT7 (power) "High-side output of channel 7", 25 OUT6 (power) "High-side output of channel 6", 26 OUT6 (power) "High-side output of channel 6", 27 OUT5 (power) "High-side output of channel 5", 28 OUT5 (power) "High-side output of channel 5", 29 OUT4 (power) "High-side output of channel 4", 30 OUT4 (power) "High-side output of channel 4", 31 OUT3 (power) "High-side output of channel 3", 32 OUT3 (power) "High-side output of channel 3", 33 OUT2 (power) "High-side output of channel 2", 34 OUT2 (power) "High-side output of channel 2", 35 OUT1 (power) "High-side output of channel 1", 36 OUT1 (power) "High-side output of channel 1", 37 VBB (power) "Voltage Supply; Battery voltage"
part B pins: 1 NC "Not connected", 2 NC "Not connected", 4 NC "Not connected", 5 NC "Not connected", 14 NC "Not connected", 15 NC "Not connected", 16 NC "Not connected", 17 NC "Not connected", 18 NC "Not connected"

## BTS5008-1EKB
designator U?
Smart Highside Power Switch Single Channnel, 8 mOhm, -40 to 150 degC, PG-DSO-14-47, Reel, Green; Manufacturer: Infineon; PartNumber: BTS5008-1EKB; Green: TRUE; DatasheetVersion: Rev. 2.0; PackageVersion: Apr-12; PackageReference: PG-DSO-14-47 EP; PackageDescription: 14-Pin Plastic (Green) Dual Small Outline Package, 8.65 x 3.9 mm Body, 1.27 mm Pitch; Supplier 1: Mouser; Supplier Part Number 1: N/A; Halogen-free: TRUE; Packing: Reel; Mounting Technology: Surface Mount; Code_JEDEC: MS-012; ComponentLink1Description: Manufacturer URL; ComponentLink1URL: http://www.infineon.com/; ComponentLink2Description: Datasheet; ComponentLink2URL: http://www.infineon.com/dgdl/BTS5008-1EKB-Data-Sheet-20-Infineon.pdf?folderId=db3a304314dca3890114df197b25000f&fileId=db3a30433daca496013db00d97ac1594; ComponentLink3Description: Package Specification; ComponentLink3URL: http://www.infineon.com/dgdl/BTS5008-1EKB-Data-Sheet-20-Infineon.pdf?folderId=db3a304314dca3890114df197b25000f&fileId=db3a30433daca496013db00d97ac1594&sId=db3a30433f2e70c5013f420039644e8f
footprint INF-PG-DSO-14-47 EP_N (SOP, 14-Leads, Body 8.65x3.9mm, Pitch 1.27mm, Thermal Pad 6.5x2.75mm, IPC Medium Density)
footprint INF-PG-DSO-14-47 EP_L (SOP, 14-Leads, Body 8.65x3.9mm, Pitch 1.27mm, Thermal Pad 6.5x2.75mm, IPC High Density)
footprint INF-PG-DSO-14-47 EP_M (SOP, 14-Leads, Body 8.65x3.9mm, Pitch 1.27mm, Thermal Pad 6.5x2.75mm, IPC Low Density)
part A pins: 3 GND (power) "GrouND; Ground connection", 4 IN (in) "INput channel; Input signal for channel activation", 5 DEN (in) "Diagnostic ENable; Digital signal to enable/disable the diagnosis of the device", 6 IS (out) "Sense; Sense current of the selected channel", 10 OUT (power) "OUTput; Protected high side power output channel", 11 OUT (power) "OUTput; Protected high side power output channel", 12 OUT (power) "OUTput; Protected high side power output channel", 15 VS (power) "Voltage Supply; Battery voltage"
part B pins: 1 NC "Not Connected; No internal connection to the chip", 2 NC "Not Connected; No internal connection to the chip", 7 NC "Not Connected; No internal connection to the chip", 8 NC "Not Connected; No internal connection to the chip", 9 NC "Not Connected; No internal connection to the chip", 13 NC "Not Connected; No internal connection to the chip", 14 NC "Not Connected; No internal connection to the chip"

## BTS5010-1EKB
designator U?
PROFET+ 12 V Smart High-Side Power Switch, 1 Channel, 10 mohm, 10 A Load Current, -40 to 150 degC, PG-DSO-14-47, Reel, Green; Manufacturer: Infineon; PartNumber: BTS5010-1EKB; Channels: 1; Green: TRUE; Group: Automotive Qualified; Load Current (typ): 10 A; Ptot (max): 2 mW; Recommended Operating Voltage Max.: 28 V; Recommended Operating Voltage Min.: 5 V; RON @ 25degreesC: 10 mOhm; RON(max) @ 150degreesC: 20 mOhm; toff (max): 250 us; DatasheetVersion: Rev. 2.0; PackageVersion: Apr-12; PackageReference: PG-DSO-14-47; PackageDescription: 14-Pin Plastic (Green) Dual Small Outline Package, 8.65 x 3.9 mm Body, 1.27 mm Pitch; Halogen-free: TRUE; Packing: Reel; ton (max): 250 us; Mounting Technology: Surface Mount; Code_JEDEC: MS-012; ComponentLink1Description: Manufacturer URL; ComponentLink1URL: http://www.infineon.com/; ComponentLink2Description: Datasheet; ComponentLink2URL: http://www.infineon.com/dgdl/BTS5010-1EKB-Data-Sheet-20-Infineon.pdf?folderId=db3a304317a748360117eee5521349bb&fileId=db3a304336ca04c90136ee624c8e7f90&location=en.Products.Automotive_ICs.Smart_High-_and_Low-Side_Switches.PROFET__-_Smart_High_Side_Switches.DATASHEET.BTS5010-1EKB-Data-Sheet-20-Infineon.pdf; ComponentLink3Description: Package Specification; ComponentLink3URL: http://www.infineon.com/dgdl/BTS5016-1EKB-Datasheet-20-Infineon.pdf?folderId=db3a304317a748360117eee5521349bb&fileId=db3a3043372d5cc8013735a2497012f0&sId=db3a30433d68e984013d8558efbc0db3
footprint INF-PG-DSO-14-47_N (SOP, 14-Leads, Body 8.65x3.9mm, Pitch 1.27mm, Thermal Pad 6500x2750mm, IPC Medium Density)
footprint INF-PG-DSO-14-47_L (SOP, 14-Leads, Body 8.65x3.9mm, Pitch 1.27mm, Thermal Pad 6500x2750mm, IPC High Density)
footprint INF-PG-DSO-14-47_M (SOP, 14-Leads, Body 8.65x3.9mm, Pitch 1.27mm, Thermal Pad 6500x2750mm, IPC Low Density)
part A pins: 3 GND (power) "GrouND; Ground connection", 4 IN (in) "INput channel; Input signal for channel activation", 5 DEN (in) "Diagnostic ENable; Digital signal to enable/disable the diagnosis of the device", 6 IS (hiz) "Sense; Sense current of the selected channel", 10 OUT (power) "OUTput; Protected high side power output channel", 11 OUT (power) "OUTput; Protected high side power output channel", 12 OUT (power) "OUTput; Protected high side power output channel", 15 VS (power) "Voltage Supply; Battery voltage"
part B pins: 1 NC "Not Connected; No internal connection to the chip", 2 NC "Not Connected; No internal connection to the chip", 7 NC "Not Connected; No internal connection to the chip", 8 NC "Not Connected; No internal connection to the chip", 9 NC "Not Connected; No internal connection to the chip", 13 NC "Not Connected; No internal connection to the chip", 14 NC "Not Connected; No internal connection to the chip"

## BTS5012-1EKB
designator U?
PROFET+ 12 V Smart High-Side Power Switch, 1 Channel, 12 mohm, 10 A Load Current, -40 to 150 degC, PG-DSO-14-47, Reel, Green; Manufacturer: Infineon; PartNumber: BTS5012-1EKB; Channels: 1; Green: TRUE; Group: Automotive Qualified; Load Current (typ): 10 A; Ptot (max): 2 mW; Recommended Operating Voltage Max.: 28 V; Recommended Operating Voltage Min.: 5 V; RON @ 25degreesC: 12 mOhm; RON(max) @ 150degreesC: 24 mOhm; toff (max): 250 us; DatasheetVersion: Rev. 2.0; PackageVersion: Apr-12; PackageReference: PG-DSO-14-47; PackageDescription: 14-Pin Plastic (Green) Dual Small Outline Package, 8.65 x 3.9 mm Body, 1.27 mm Pitch; Halogen-free: TRUE; Packing: Reel; ton (max): 250 us; Mounting Technology: Surface Mount; Code_JEDEC: MS-012; ComponentLink1Description: Manufacturer URL; ComponentLink1URL: http://www.infineon.com/; ComponentLink2Description: Datasheet; ComponentLink2URL: http://www.infineon.com/dgdl/BTS5012-1EKB-Data-Sheet-20-Infineon.pdf?folderId=db3a304317a748360117eee5521349bb&fileId=db3a304336ca04c90136eeed674a7fc0&location=en.Products.Automotive_ICs.Smart_High-_and_Low-Side_Switches.PROFET__-_Smart_High_Side_Switches.DATASHEET.BTS5012-1EKB-Data-Sheet-20-Infineon.pdf; ComponentLink3Description: Package Specification; ComponentLink3URL: http://www.infineon.com/dgdl/BTS5016-1EKB-Datasheet-20-Infineon.pdf?folderId=db3a304317a748360117eee5521349bb&fileId=db3a3043372d5cc8013735a2497012f0&sId=db3a30433d68e984013d8558efbc0db3
footprint INF-PG-DSO-14-47_N (SOP, 14-Leads, Body 8.65x3.9mm, Pitch 1.27mm, Thermal Pad 6500x2750mm, IPC Medium Density)
footprint INF-PG-DSO-14-47_L (SOP, 14-Leads, Body 8.65x3.9mm, Pitch 1.27mm, Thermal Pad 6500x2750mm, IPC High Density)
footprint INF-PG-DSO-14-47_M (SOP, 14-Leads, Body 8.65x3.9mm, Pitch 1.27mm, Thermal Pad 6500x2750mm, IPC Low Density)
part A pins: 3 GND (power) "GrouND; Ground connection", 4 IN (in) "INput channel; Input signal for channel activation", 5 DEN (in) "Diagnostic ENable; Digital signal to enable/disable the diagnosis of the device", 6 IS (hiz) "Sense; Sense current of the selected channel", 10 OUT (power) "OUTput; Protected high side power output channel", 11 OUT (power) "OUTput; Protected high side power output channel", 12 OUT (power) "OUTput; Protected high side power output channel", 15 VS (power) "Voltage Supply; Battery voltage"
part B pins: 1 NC "Not Connected; No internal connection to the chip", 2 NC "Not Connected; No internal connection to the chip", 7 NC "Not Connected; No internal connection to the chip", 8 NC "Not Connected; No internal connection to the chip", 9 NC "Not Connected; No internal connection to the chip", 13 NC "Not Connected; No internal connection to the chip", 14 NC "Not Connected; No internal connection to the chip"

## BTS5012SDA
designator U?
Smart High-Side Power Switch PROFET, 1 Channel, 8 A Load Current, -40 to 150 degC, PG-TO252-5-11, Reel, Green; Manufacturer: Infineon; PartNumber: BTS5012SDA; Channels: 1; Green: TRUE; Group: Automotive Qualified; Load Current (typ): 8 A; Recommended Operating Voltage Max.: 20 V; Recommended Operating Voltage Min.: 5.5 V; RON @ 25degreesC: 12 mOhm; RON(max) @ 150degreesC: 24 mOhm; toff (max): 500 us; DatasheetVersion: Rev. 1.1; PackageVersion: Nov-10; PackageReference: PG-TO252-5-11; PackageDescription: 5-Pin Plastic (Green) Transistor Single Outline Package, 6.5 x 6.12 mm Body, 1.14 mm Pitch; Supplier 1: Mouser; Supplier Part Number 1: 726-BTS5012SDA; Supplier 2: Newark; Supplier Part Number 2: 47W3401; Supplier 3: Farnell; Supplier Part Number 3: 2215479; Supplier 4: Digi-Key; Supplier Part Number 4: BTS5012SDAINTR-ND; Supplier 5: Digi-Key; Supplier Part Number 5: BTS5012SDAINCT-ND; Supplier 6: Digi-Key; Supplier Part Number 6: BTS5012SDAINDKR-ND; Halogen-free: TRUE; Packing: Reel; ton (max): 500 us; Mounting Technology: Surface Mount; ComponentLink1Description: Manufacturer URL; ComponentLink1URL: http://www.infineon.com/; ComponentLink2Description: Datasheet; ComponentLink2URL: http://www.infineon.com/dgdl/BTS5012SDA_DS_v11.pdf?folderId=db3a304314dca38901152836c5a412ab&fileId=db3a30431d8a6b3c011db95c6eba237d&location=en.Products.Automotive_ICs.Smart_High-_and_Low-Side_Switches.PROFET__-_Smart_High_Side_Switches.DATASHEET.BTS5012SDA_DS_v11.pdf; ComponentLink3Description: Package Specification; ComponentLink3URL: http://www.infineon.com/dgdl/TLE7276-Data+Sheet-+v1_11.pdf?folderId=db3a304412b407950112b408e8c90004&fileId=db3a304412b407950112b436c53f66c8&sId=db3a30433db6f09f013dc0e43c0428c1
footprint INF-PG-TO252-5-11_N (DPAK, 5-Leads, Body 6.5x6.12mm, Pitch 1.14mm, IPC Medium Density)
footprint INF-PG-TO252-5-11_L (DPAK, 5-Leads, Body 6.5x6.12mm, Pitch 1.14mm, IPC High Density)
footprint INF-PG-TO252-5-11_M (DPAK, 5-Leads, Body 6.5x6.12mm, Pitch 1.14mm, IPC Low Density)
pins: 1 OUT (power) "Output; output to the load; pin 1 and 5 must be externally shorted.", 2 IN (in) "Input; activates the power switch if shorted to ground.", 3 VBB (power) "Supply Voltage; positive power supply voltage; tab and pin 3 are internally shorted", 4 IS (out) "Sense Output; Diagnostic feedback; provides at normal operation a sense current proportional to the load current; in case of overload, overtemperature and/or short circuit a defined current is provided (see Table 1 “Truth (See Datasheet)", 5 OUT (power) "Output; output to the load; pin 1 and 5 must be externally shorted."

## BTS5014SDA
designator U?
Smart High-Side Power Switch PROFET, 1 Channel, 7 A Load Current, -40 to 150 degC, PG-TO252-5-11, Reel, Green; Manufacturer: Infineon; PartNumber: BTS5014SDA; Channels: 1; Green: TRUE; Group: Automotive Qualified; Load Current (typ): 7 A; Recommended Operating Voltage Max.: 20 V; Recommended Operating Voltage Min.: 5.5 V; RON @ 25degreesC: 14 mOhm; RON(max) @ 150degreesC: 28 mOhm; toff (max): 500 us; DatasheetVersion: Rev. 1.1; PackageVersion: Nov-10; PackageReference: PG-TO252-5-11; PackageDescription: 5-Pin Plastic (Green) Transistor Single Outline Package, 6.5 x 6.12 mm Body, 1.14 mm Pitch; Supplier 1: Mouser; Supplier Part Number 1: 726-BTS5014SDA; Supplier 2: Newark; Supplier Part Number 2: 47W3402; Supplier 3: Farnell; Supplier Part Number 3: 2215480; Supplier 4: Digi-Key; Supplier Part Number 4: BTS5014SDAINTR-ND; Supplier 5: Digi-Key; Supplier Part Number 5: BTS5014SDAINCT-ND; Supplier 6: Digi-Key; Supplier Part Number 6: BTS5014SDAINDKR-ND; Halogen-free: TRUE; Packing: Reel; ton (max): 500 us; Mounting Technology: Surface Mount; ComponentLink1Description: Manufacturer URL; ComponentLink1URL: http://www.infineon.com/; ComponentLink2Description: Datasheet; ComponentLink2URL: http://www.infineon.com/dgdl/BTS5014SDA_DS_v11.pdf?folderId=db3a304314dca389011537739e37155f&fileId=db3a30431d8a6b3c011db95d74a92382&location=en.Products.Automotive_ICs.Smart_High-_and_Low-Side_Switches.PROFET__-_Smart_High_Side_Switches.DATASHEET.BTS5014SDA_DS_v11.pdf; ComponentLink3Description: Package Specification; ComponentLink3URL: http://www.infineon.com/dgdl/TLE7276-Data+Sheet-+v1_11.pdf?folderId=db3a304412b407950112b408e8c90004&fileId=db3a304412b407950112b436c53f66c8&sId=db3a30433db6f09f013dc0e43c0428c1
footprint INF-PG-TO252-5-11_N (DPAK, 5-Leads, Body 6.5x6.12mm, Pitch 1.14mm, IPC Medium Density)
footprint INF-PG-TO252-5-11_L (DPAK, 5-Leads, Body 6.5x6.12mm, Pitch 1.14mm, IPC High Density)
footprint INF-PG-TO252-5-11_M (DPAK, 5-Leads, Body 6.5x6.12mm, Pitch 1.14mm, IPC Low Density)
pins: 1 OUT (power) "Output; output to the load; pin 1 and 5 must be externally shorted.", 2 IN (in) "Input; activates the power switch if shorted to ground.", 3 VBB (power) "Supply Voltage; positive power supply voltage; tab and pin 3 are internally shorted.", 4 IS (out) "Sense Output; Diagnostic feedback; provides at normal operation a sense current proportional to the load current; in case of overload, overtemperature and/or short circuit a defined current is provided.", 5 OUT (power) "Output; output to the load; pin 1 and 5 must be externally shorted."

## BTS5016-1EKB
designator U?
PROFET+ 12 V Smart High-Side Power Switch, 1 Channel, 16 mohm, 8 A Load Current, -40 to 150 degC, PG-DSO-14-47, Reel, Green; Manufacturer: Infineon; PartNumber: BTS5016-1EKB; Channels: 1; Green: TRUE; Group: Automotive Qualified; Load Current (typ): 8 A; Ptot (max): 2 mW; Recommended Operating Voltage Max.: 28 V; Recommended Operating Voltage Min.: 5 V; RON @ 25degreesC: 16 mOhm; RON(max) @ 150degreesC: 32 mOhm; toff (max): 250 us; DatasheetVersion: Rev. 2.0; PackageVersion: Apr-12; PackageReference: PG-DSO-14-47; PackageDescription: 14-Pin Plastic (Green) Dual Small Outline Package, 8.65 x 3.9 mm Body, 1.27 mm Pitch; Halogen-free: TRUE; Packing: Reel; ton (max): 250 us; Mounting Technology: Surface Mount; Code_JEDEC: MS-012; ComponentLink1Description: Manufacturer URL; ComponentLink1URL: http://www.infineon.com/; ComponentLink2Description: Datasheet; ComponentLink2URL: http://www.infineon.com/dgdl/BTS5016-1EKB-Datasheet-20-Infineon.pdf?folderId=db3a304317a748360117eee5521349bb&fileId=db3a3043372d5cc8013735a2497012f0&location=en.Products.Automotive_ICs.Smart_High-_and_Low-Side_Switches.PROFET__-_Smart_High_Side_Switches.DATASHEET.BTS5016-1EKB-Datasheet-20-Infineon.pdf; ComponentLink3Description: Package Specification; ComponentLink3URL: http://www.infineon.com/dgdl/BTS5016-1EKB-Datasheet-20-Infineon.pdf?folderId=db3a304317a748360117eee5521349bb&fileId=db3a3043372d5cc8013735a2497012f0&sId=db3a30433d68e984013d8558efbc0db3
footprint INF-PG-DSO-14-47_N (SOP, 14-Leads, Body 8.65x3.9mm, Pitch 1.27mm, Thermal Pad 6500x2750mm, IPC Medium Density)
footprint INF-PG-DSO-14-47_L (SOP, 14-Leads, Body 8.65x3.9mm, Pitch 1.27mm, Thermal Pad 6500x2750mm, IPC High Density)
footprint INF-PG-DSO-14-47_M (SOP, 14-Leads, Body 8.65x3.9mm, Pitch 1.27mm, Thermal Pad 6500x2750mm, IPC Low Density)
part A pins: 3 GND (power) "GrouND; Ground connection", 4 IN (in) "INput channel; Input signal for channel activation", 5 DEN (in) "Diagnostic ENable; Digital signal to enable/disable the diagnosis of the device", 6 IS (hiz) "Sense; Sense current of the selected channel", 10 OUT (power) "OUTput; Protected high side power output channel", 11 OUT (power) "OUTput; Protected high side power output channel", 12 OUT (power) "OUTput; Protected high side power output channel", 15 VS (power) "Voltage Supply; Battery voltage"
part B pins: 1 NC "Not Connected; No internal connection to the chip", 2 NC "Not Connected; No internal connection to the chip", 7 NC "Not Connected; No internal connection to the chip", 8 NC "Not Connected; No internal connection to the chip", 9 NC "Not Connected; No internal connection to the chip", 13 NC "Not Connected; No internal connection to the chip", 14 NC "Not Connected; No internal connection to the chip"